# Altium schematic symbol library interfaces_rs.SchLib: 4 symbols
Pins are listed as number, name and electrical type; pins without a type are passive.

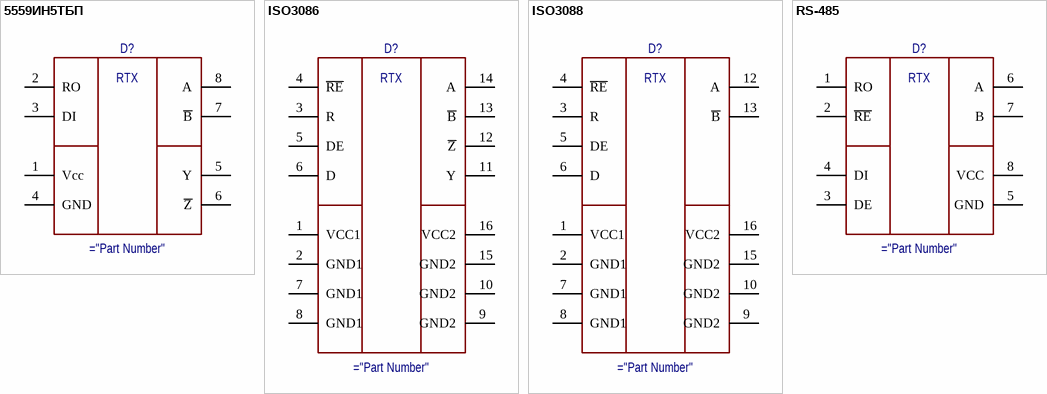
[diagram p0: symbols 5559ИН5ТБП to RS-485]

## 5559ИН5ТБП
designator D?
RS-422 (Интеграл)
pins: 1 Vcc, 2 RO, 3 DI, 4 GND, 5 Y, 6 ~{Z}, 7 ~{B}, 8 A
text: RTX

## ISO3086
designator D?
IsoRS-485/422
pins: 1 VCC1, 2 GND1, 3 R, 4 ~{RE}, 5 DE, 6 D, 7 GND1, 8 GND1, 9 GND2, 10 GND2, 11 Y, 12 ~{Z}, 13 ~{B}, 14 A, 15 GND2, 16 VCC2
text: RTX

## ISO3088
designator D?
IsoRS-485
pins: 1 VCC1, 2 GND1, 3 R, 4 ~{RE}, 5 DE, 6 D, 7 GND1, 8 GND1, 9 GND2, 10 GND2, 11 NC hidden, 12 A, 13 ~{B}, 14 NC hidden, 15 GND2, 16 VCC2
text: RTX

## RS-485
designator D?
RS-485
pins: 1 RO, 2 ~{RE}, 3 DE, 4 DI, 5 GND, 6 A, 7 B, 8 VCC
text: RTX